# EAGLE library part LNK623-626 (library IC)
Energy-Efficient,Off-line Switcher with Accurate Primary-side Constant-Voltage(CV) Control http://www.platan.ru/pdf/news_pdf/1222.pdf
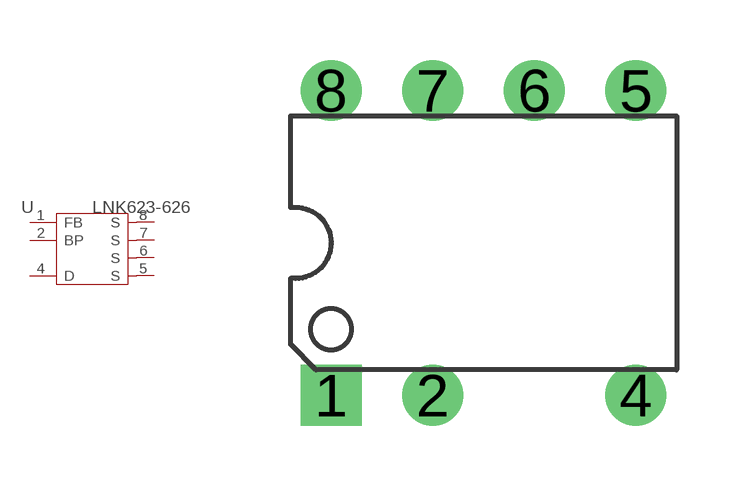
[diagram p22: symbol with the pads of DIP-8C; footprint DIP-8C]

Designator prefix U

## LNK623-626-DIP-8C  [DIP-8C]
1  FB  in
2  BP
4  D
5  S
6  S
7  S
8  S

## Footprint DIP-8C (pad centres in mm)
drill 0.8 pad 1.524 square: 1 -3.81,-3.81
drill 0.8 pad 1.524: 2 -1.27,-3.81; 4 3.81,-3.81; 5 3.81,3.81; 6 1.27,3.81; 7 -1.27,3.81; 8 -3.81,3.81